# EAGLE library part ADP7102ARDZ-R7 (library Analog_Device)
Low Noise, CMOS LDO
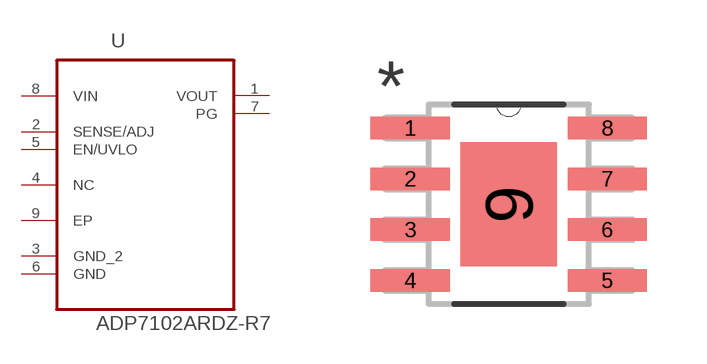
[diagram p0: symbol with the pads of SOIC127P600X175-9N; footprint SOIC127P600X175-9N]

Designator prefix U

## ADP7102ARDZ-R7 (MPN: ADP7102ARDZ-R7; OC_FARNELL: 2070696; OC_NEWARK: 82T5465; PACKAGE: SOIC-8; SUPPLIER: Analog Devices)  [SOIC127P600X175-9N]
1  VOUT  out
2  SENSE/ADJ  pas
3  GND_2  pas
4  NC  nc
5  EN/UVLO  in
6  GND  pas
7  PG  out
8  VIN  pwr
9  EP  pas

## Footprint SOIC127P600X175-9N (pad centres in mm)
smd 1.981 x 0.559: 1 -2.464,1.905; 2 -2.464,0.635; 3 -2.464,-0.635; 4 -2.464,-1.905; 5 2.464,-1.905; 6 2.464,-0.635; 7 2.464,0.635; 8 2.464,1.905
smd 2.413 x 3.099: 9 0,0